# EAGLE library part CONN_USB-C_2.0 (library parts_footprints)
USB-C connector USB 2.0 https://www.mouser.com/ProductDetail/640-USB4105-GF-A
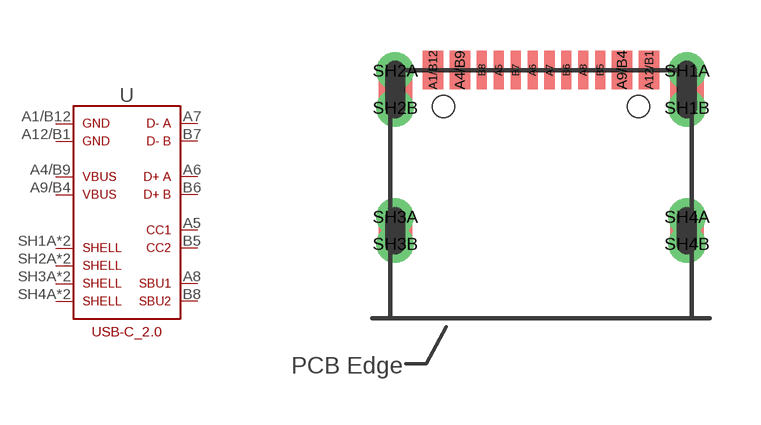
[diagram p1: symbol with the pads of USB4105-GF; footprint USB4105-GF]

Designator prefix -

## CONN_USB-C_2.0  [USB4105-GF]
A1/B12  A1/B12
A4/B9  A4/B9
A5  A5
A6  A6
A7  A7
A8  A8
A9/B4  A9/B4
A12/B1  A12/B1
B5  B5
B6  B6
B7  B7
B8  B8
SH1A  SH1
SH1B  SH1
SH2A  SH2
SH2B  SH2
SH3A  SH3
SH3B  SH3
SH4A  SH4
SH4B  SH4

## Footprint USB4105-GF (pad centres in mm)
smd 0.6 x 1.15: A1/B12 -3.2,0; A4/B9 -2.4,0; A9/B4 2.4,0; A12/B1 3.2,0
smd 0.3 x 1.15: A5 -1.25,0; A6 -0.25,0; A7 0.25,0; A8 1.25,0; B5 1.75,0; B6 0.75,0; B7 -0.75,0; B8 -1.75,0
drill 0.6 pad 1: SH1A 4.32,-0.025; SH1B 4.32,-1.125; SH2A -4.32,-0.025; SH2B -4.32,-1.125; SH3A -4.32,-4.355; SH3B -4.32,-5.155; SH4A 4.32,-4.355; SH4B 4.32,-5.155
hole 0.65 at -2.89,-1.075
hole 0.65 at 2.89,-1.075